# Altium footprint library Protocoles de comunication.PcbLib: 1 footprints
Each footprint in its own frame and in the unit in brackets; x right, y up, seen from the top. Pads: shape width x height; smd on the part's side, far side on the other; paste and mask are expansions set on the pad; w line width, h text height; cw(c..) or ccw(c..) is an arc to the next point about the centre after c.
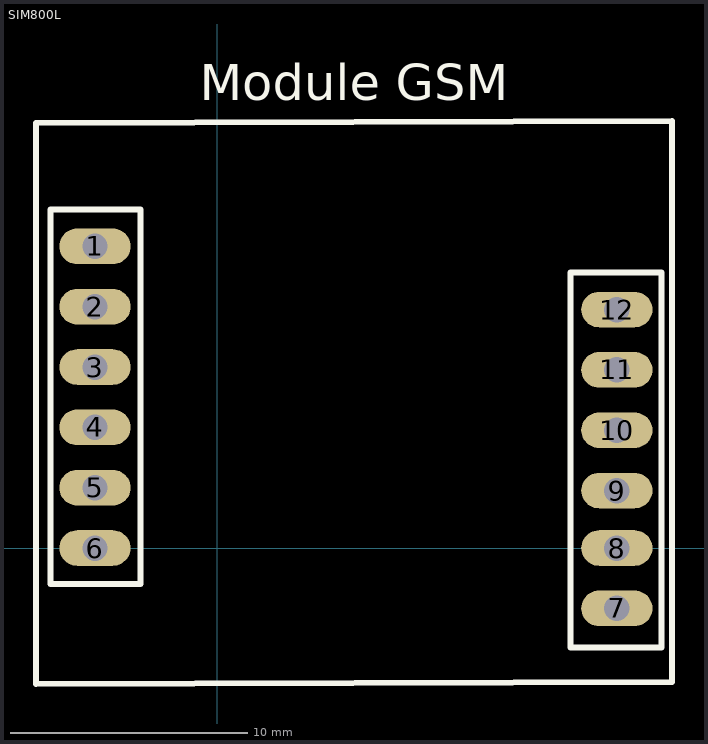
[diagram p0: the footprint, top view; thin cyan lines are the x and y axes]

## SIM800L [mm]
pads (12):
  oval 3x1.5 hole 1.07: 1(-5.15,12.7) 2(-5.15,10.16) 3(-5.15,7.62) 4(-5.15,5.08) 5(-5.15,2.54) 6(-5.15,0) 7(16.82,-2.54) 8(16.82,0) 9(16.82,2.42) 10(16.82,4.96) 11(16.82,7.5) 12(16.82,10.04)
Top Overlay:
  lines w0.254: -7.641,-5.722 -7.641,17.885 19.149,17.972 19.149,-5.635 -7.641,-5.722 ; -7.015,-1.52 -7.015,14.257 -3.233,14.257 -3.233,-1.52 -7.015,-1.52 ; 14.859,-4.18 18.702,-4.18 18.702,11.597 14.859,11.597 14.859,-4.18
  text "Module GSM" at -0.746,18.853 h1.52
3D body "sim.x_t": height 15.35, standoff -3.2, extent -6.641,-5.362 18.359,17.772